# EAGLE library part MCP2551 (library Shell2013)
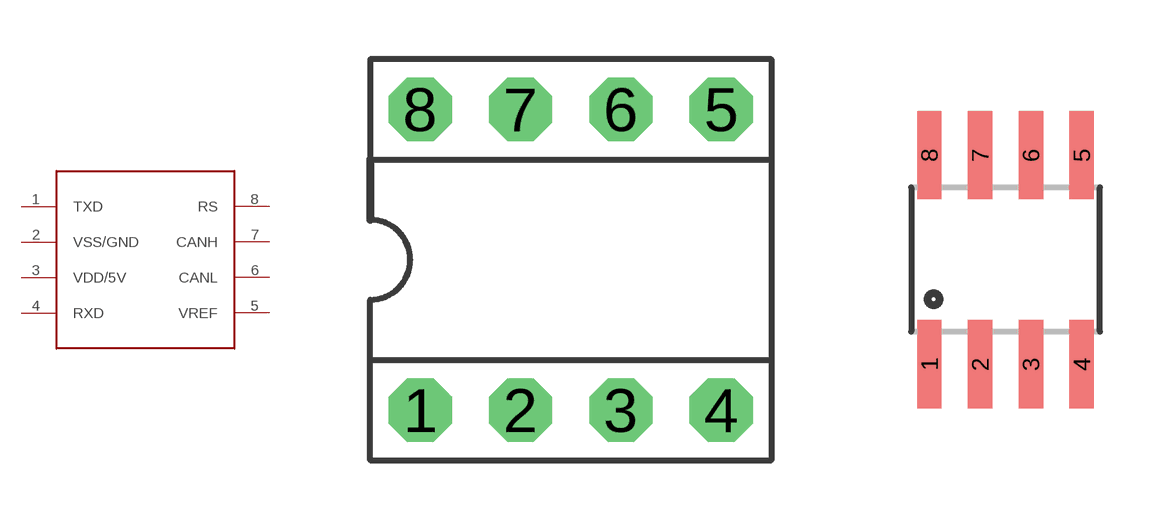
[diagram p3: symbol with the pads of DIP8; footprints DIP8, 8-SOIC]

Designator prefix -

## MCP2551DIP  [DIP8]
1  TXD
2  VSS/GND
3  VDD/5V
4  RXD
5  VREF
6  CANL
7  CANH
8  RS

## MCP2551SOIC  [8-SOIC]
Pads as for DIP8

## Footprint DIP8 (pad centres in mm)
drill 0.813 pad 1.6 octagon: 1 1.27,-3.81; 2 3.81,-3.81; 3 6.35,-3.81; 4 8.89,-3.81; 5 8.89,3.81; 6 6.35,3.81; 7 3.81,3.81; 8 1.27,3.81

## Footprint 8-SOIC (pad centres in mm)
smd 0.61 x 2.21: 1 0.635,-0.076; 2 1.905,-0.076; 3 3.175,-0.076; 4 4.445,-0.076; 5 4.445,5.156; 6 3.175,5.156; 7 1.905,5.156; 8 0.635,5.156